# EAGLE library part OSTVN06A1X0 (library UpBoard)
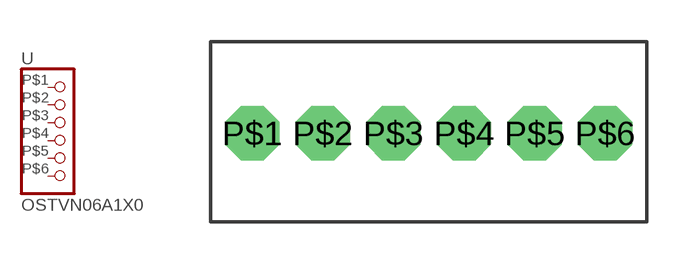
[diagram p4: symbol with the pads of OSTVN06A1X0; footprint OSTVN06A1X0]

Designator prefix -

## OSTVN06A1X0  [OSTVN06A1X0]
P$1  1  pas
P$2  2  pas
P$3  3  pas
P$4  4  pas
P$5  5  pas
P$6  6  pas

## Footprint OSTVN06A1X0 (pad centres in mm)
drill 1.3 octagon: P$1 -6.35,1.01; P$2 -3.81,1.01; P$3 -1.27,1.01; P$4 1.27,1.01; P$5 3.81,1.01; P$6 6.35,1.01